# Altium footprint library gase_sensor.PcbLib: 1 footprints
Each footprint in its own frame and in the unit in brackets; x right, y up, seen from the top. Pads: shape width x height; smd on the part's side, far side on the other; paste and mask are expansions set on the pad; w line width, h text height; cw(c..) or ccw(c..) is an arc to the next point about the centre after c.
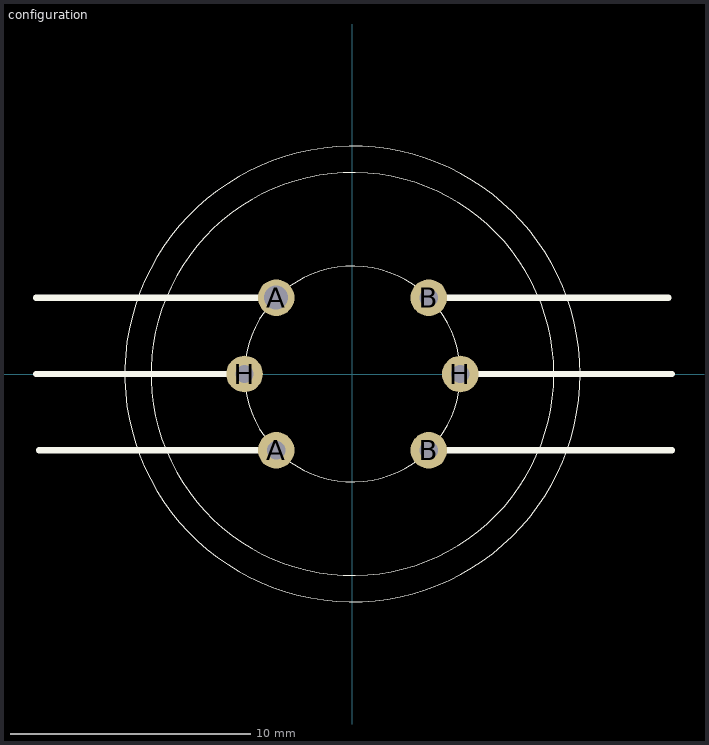
[diagram p0: the footprint, top view; thin cyan lines are the x and y axes]

## configuration [mil]
height 905.51
pads (6):
  round 60 hole 30: A(-125.27,-125.27) B(125.27,-125.27) B(125.27,125.27) H(-177.17,0) H(177.17,0)
  round 60 hole 39.37: A(-125.27,125.27)
Top Overlay:
  circle w1: c125.27,-125.27 r19.68
  circle w1: c177.17,0 r19.68
  circle w1: c125.27,125.27 r19.68
  circle w1: c-125.27,-125.27 r19.68
  circle w1: c-177.17,0 r19.68
  circle w1: c-125.27,125.27 r19.68
  circle w1: c0,0 r374.02
  circle w1: c0,0 r330.71
  circle w1: c0,0 r177.17
  lines w10: -520,0 -177.17,0 ; -519.73,125.27 -125.27,125.27 ; -515,-125.27 -125.27,-125.27 ; 125.27,-125.27 525,-125.27 ; 125.27,125.27 518.98,125.27 ; 177.17,0 525,0